# Altium schematic symbol library Diodes.SchLib: 12 symbols
Pins are listed as number, name and electrical type; pins without a type are passive.

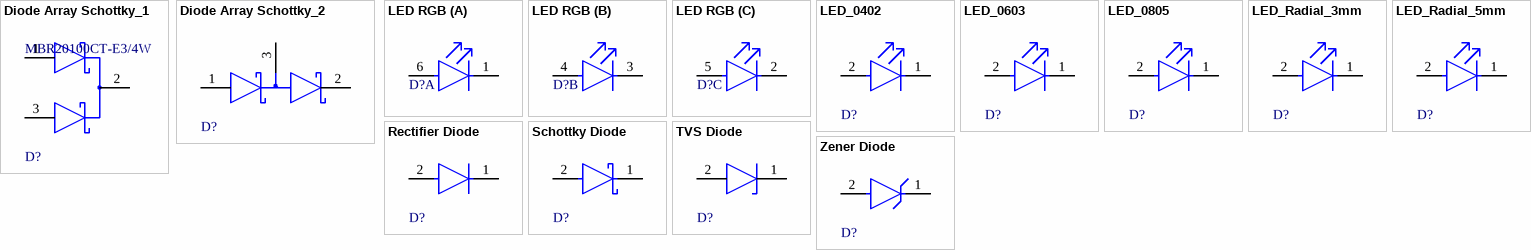
[diagram p0: symbols Diode Array Schottky_1 to Zener Diode]

## Diode Array Schottky_1
designator D?, comment MBR20100CT-E3/4W
pins: 1 1 ANODE, 2 COMMON CATHODE, 3 2 ANODE

## Diode Array Schottky_2
designator D?
pins: 1, 2, 3

## LED RGB
designator D?
part A pins: 1 Cathode(Blue), 6 Anode(Blue)
part B pins: 3 Cathode(Red), 4 Anode(Red)
part C pins: 2 Cathode(Green), 5 Anode(Green)

## LED_0402
designator D?
pins: 1 C, 2 A

## LED_0603
designator D?
pins: 1 C, 2 A

## LED_0805
designator D?
pins: 1 C, 2 A

## LED_Radial_3mm
designator D?
pins: 1 C, 2 A

## LED_Radial_5mm
designator D?
pins: 1 C, 2 A

## Rectifier Diode
designator D?
pins: 1 C, 2 A

## Schottky Diode
designator D?
pins: 1 C, 2 A

## TVS Diode
designator D?
pins: 1 C, 2 A

## Zener Diode
designator D?
pins: 1 C, 2 A